# Altium schematic symbol library Radial_8x7mm_SMD_Wurth.SchLib: 1 symbol
Pins are listed as number, name and electrical type; pins without a type are passive.

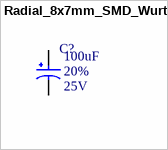
[diagram p0: symbol Radial_8x7mm_SMD_Wurth]

## Radial_8x7mm_SMD_Wurth
designator C?  Voltage Rating: 25V  Tolerance: 20%  Capacitance: 100uF
=Description; ComponentLink1Description: Datasheet; ComponentLink1URL: www.google.com
pins: 1, 2